# EAGLE library part 6N136 (library 6N136)
Vishay 6N136 DC Input, Transistor Output Optocoupler, Through-hole DIP 8 Source: Datasheet <https://componentsearchengine.com/Datasheets/2/6N136.pdf>
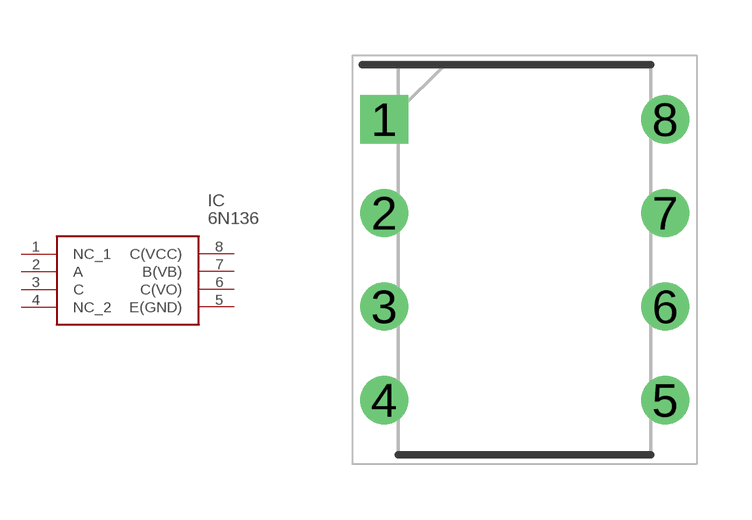
[diagram p0: symbol with the pads of DIP762W60P254L1060H465Q8N; footprint DIP762W60P254L1060H465Q8N]

Designator prefix IC

## 6N136 (Description: Vishay 6N136 DC Input, Transistor Output Optocoupler, Through-hole DIP 8; Farnell_Part_Number: 1469469; Farnell_Price-Stock: http://uk.farnell.com/jsp/displayProduct.jsp?sku=1469469&action=view; Height: 4.65mm; Manufacturer_Name: Vishay; Manufacturer_Part_Number: 6N136)  [DIP762W60P254L1060H465Q8N]
1  NC_1
2  A
3  C
4  NC_2
5  E(GND)
6  C(VO)
7  B(VB)
8  C(VCC)

## Footprint DIP762W60P254L1060H465Q8N (pad centres in mm)
DIP-8
drill 0.8 pad 1.2 square: 1 -3.81,3.81
drill 0.8 pad 1.2: 2 -3.81,1.27; 3 -3.81,-1.27; 4 -3.81,-3.81; 5 3.81,-3.81; 6 3.81,-1.27; 7 3.81,1.27; 8 3.81,3.81